# EAGLE library part ADE7913 (library collin)
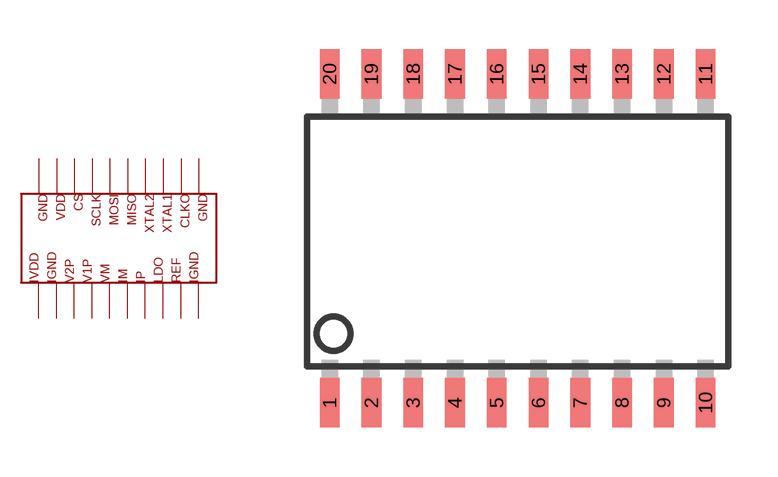
[diagram p0: symbol with the pads of SOIC20; footprint SOIC20]

Designator prefix -

## ADE7913  [SOIC20]
1  P$1
2  P$2
3  P$3
4  P$4
5  P$5
6  P$6
7  P$7
8  P$8
9  P$9
10  P$10
11  P$11
12  P$12
13  P$13
14  P$14
15  P$15
16  P$16
17  P$17
18  P$18
19  P$19
20  P$20

## Footprint SOIC20 (pad centres in mm)
smd 0.6 x 1.5: 1 0.635,-1.19; 2 1.905,-1.19; 3 3.175,-1.19; 4 4.445,-1.19; 5 5.715,-1.19; 6 6.985,-1.19; 7 8.255,-1.19; 8 9.525,-1.19; 9 10.795,-1.19; 10 12.065,-1.19; 11 12.065,8.81; 12 10.795,8.81; 13 9.525,8.81; 14 8.255,8.81; 15 6.985,8.81; 16 5.715,8.81; 17 4.445,8.81; 18 3.175,8.81; 19 1.905,8.81; 20 0.635,8.81